# Altium schematic symbol library M5333B.SchLib: 1 symbol
Pins are listed as number, name and electrical type; pins without a type are passive.

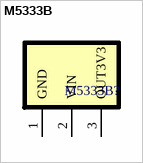
[diagram p0: symbol M5333B]

## M5333B
designator M5333B?  (value not drawn)
footprint M5333B
pins: 1 GND, 2 VIN, 3 OUT3V3